# Altium schematic symbol library ICs-AnalogDigitalConverters.SchLib: 2 symbols
Pins are listed as number, name and electrical type; pins without a type are passive.

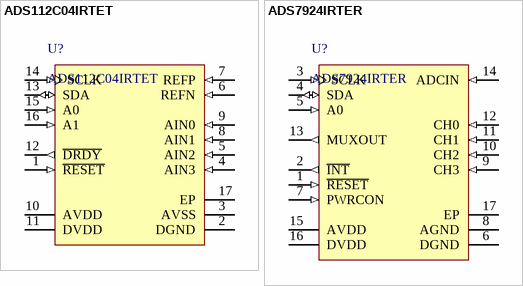
[diagram p0: symbols ADS112C04IRTET to ADS7924IRTER]

## ADS112C04IRTET
designator U?
IC ADC 16BIT I2C 1KSPS 16WQFN; Manufacturer: Texas Instruments; PackageReference: QFN-16; Mounting Technology: Surface Mount; PartNumber: ADS112C04IRTET
footprint QFN-16 (QFN, 16-Leads, Body 3.00x3.00mm, Pitch 0.50mm, Thermal Pad 1.80x1.80mm, IPC Medium Density)
pins: 1 ~{RESET} (in) "External reset, active low", 2 DGND (power) "Digital ground", 3 AVSS (power) "Analog ground", 4 AIN3 (in) "Input channel 3", 5 AIN2 (in) "Input channel 2", 6 REFN (in) "Power control pin to control shutdown/power-up of external op amp", 7 REFP (in) "ADC input", 8 AIN1 (in) "Input channel 1", 9 AIN0 (in) "Input channel 0", 10 AVDD (power) "Analog supply", 11 DVDD (power) "Digital supply", 12 ~{DRDY} (out) "Interrupt pin, active low; generated when input voltage is beyond programmed threshold", 13 SDA (io) "Serial data", 14 SCLK (in) "Serial clock input", 15 A0 (in) "I2C address selection", 16 A1 (in) "I2C address selection", 17 EP (power) "Connect to AGND."

## ADS7924IRTER
designator U?
IC ADC 12BIT I2C 100KSPS 16WQFN; Manufacturer: Texas Instruments; PackageReference: QFN-16; Mounting Technology: Surface Mount; PartNumber: ADS7924IRTER
footprint QFN-16 (QFN, 16-Leads, Body 3.00x3.00mm, Pitch 0.50mm, Thermal Pad 1.80x1.80mm, IPC Medium Density)
pins: 1 ~{RESET} (in) "External reset, active low", 2 ~{INT} (out) "Interrupt pin, active low; generated when input voltage is beyond programmed threshold", 3 SCLK (in) "Serial clock input", 4 SDA (io) "Serial data", 5 A0 (in) "I2C address selection", 6 DGND (power) "Digital ground", 7 PWRCON (in) "Power control pin to control shutdown/power-up of external op amp", 8 AGND (power) "Analog ground", 9 CH3 (in) "Input channel 3", 10 CH2 (in) "Input channel 2", 11 CH1 (in) "Input channel 1", 12 CH0 (in) "Input channel 0", 13 MUXOUT (out) "Multiplexer output", 14 ADCIN (in) "ADC input", 15 AVDD (power) "Analog supply", 16 DVDD (power) "Digital supply", 17 EP (power) "Connect to AGND."